# Altium footprint library MICRO-GRUPO_5-5A.pcbLib.PcbLib: 26 footprints (part 2 of 2)
Each footprint in its own frame and in the unit in brackets; x right, y up, seen from the top. Pads: shape width x height; smd on the part's side, far side on the other; paste and mask are expansions set on the pad; w line width, h text height; cw(c..) or ccw(c..) is an arc to the next point about the centre after c.
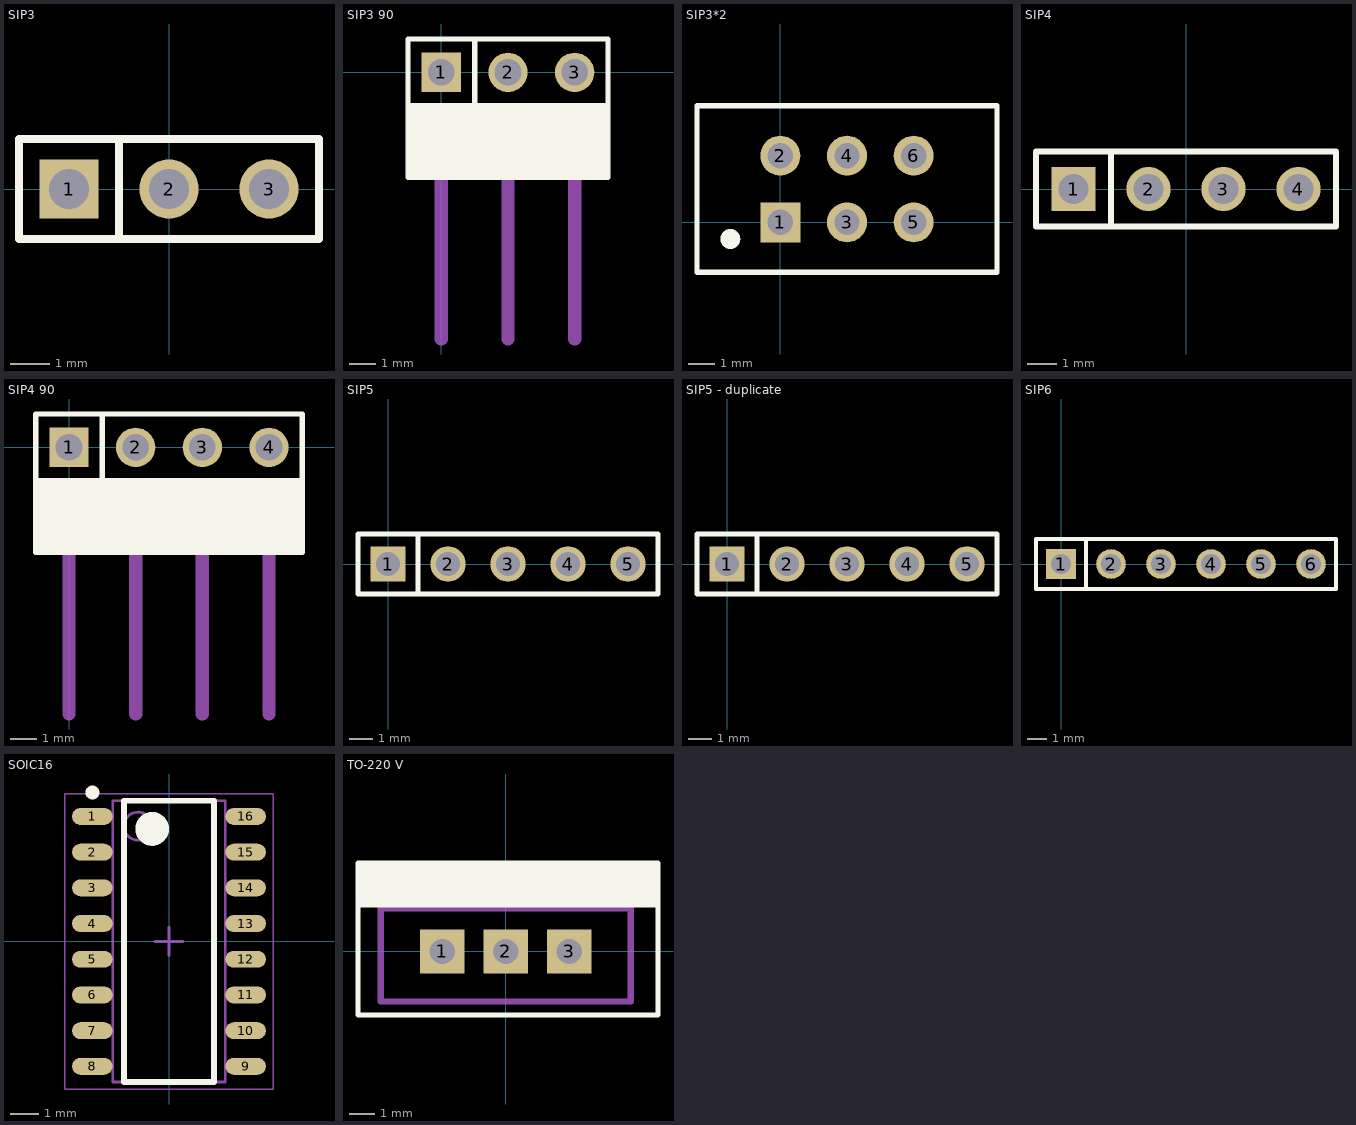
[diagram p1: the footprints below, top view; thin cyan lines are the x and y axes]

## SIP3 [mm]
pads (3):
  rect 1.5x1.5 hole 1.016: 1(-2.54,0)
  round 1.5 hole 1.016: 2(0,0) 3(2.54,0)
Top Overlay:
  lines w0.2: -1.27,-1.27 -1.27,1.27 ; -3.81,-1.27 3.81,-1.27 3.81,1.27 -3.81,1.27 -3.81,-1.27
3D body: height 8.38, standoff -2.54, extent -3.81,-1.295 3.81,1.245

## SIP3 90 [mm]
pads (3):
  rect 1.5x1.5 hole 1.016: 1(0,0)
  round 1.5 hole 1.016: 2(2.54,0) 3(5.08,0)
Top Overlay:
  rectangle: -1.27,-4 1.27,-1.27
  rectangle: 1.27,-4 3.81,-1.27
  rectangle: 3.81,-4 6.35,-1.27
  lines w0.2: 1.27,1.27 1.27,-1.27 ; -1.27,-1.27 6.35,-1.27 ; -1.27,-1.27 -1.27,1.27 6.35,1.27 6.35,-1.27 ; -1.27,-1.27 -1.27,-4 1.27,-4 ; 1.27,-4 1.27,-1.27 ; 1.27,-4 1.27,-1.27 ; 1.27,-4 3.81,-4 ; 3.81,-4 3.81,-1.27 3.81,-4 ; 3.81,-4 6.35,-4 6.35,-1.27
Mechanical 1:
  lines w0.508: 0,-10.16 0,-4.064 ; 2.54,-10.16 2.54,-4.064 ; 5.08,-10.16 5.08,-4.064
3D body: height 3.76, standoff -4.72, extent -1.27,-9.938 3.81,0.286
3D body: height 3.76, standoff -4.72, extent 1.27,-9.938 6.35,0.286

## SIP3*2 [mil]
pads (6):
  rect 60x60 hole 38: 1(0,0)
  round 60 hole 38: 2(0,100) 3(100,0) 4(100,100) 5(200,0) 6(200,100)
Top Overlay:
  circle w10: c-78.46,-25 r4.92
  circle w10: c-75,-25 r10
  lines w7.87: -125,-75 325,-75 325,175 -125,175 -125,-75
3D body: height 397.64, standoff -59.06, extent -49.69,-51 250.31,149

## SIP4 [mm]
pads (4):
  rect 1.5x1.5 hole 1.016: 1(-3.81,0)
  round 1.5 hole 1.016: 2(-1.27,0) 3(1.27,0) 4(3.81,0)
Top Overlay:
  lines w0.2: -2.54,-1.27 -2.54,1.27 ; -5.08,-1.27 5.08,-1.27 5.08,1.27 -5.08,1.27 -5.08,-1.27
3D body: height 8.38, standoff -2.54, extent -5.08,-1.27 5.08,1.27

## SIP4 90 [mm]
pads (4):
  rect 1.5x1.5 hole 1.016: 1(0,0)
  round 1.5 hole 1.016: 2(2.54,0) 3(5.08,0) 4(7.62,0)
Top Overlay:
  rectangle: 6.35,-4 8.89,-1.27
  rectangle: 3.81,-4 6.35,-1.27
  rectangle: 1.27,-4 3.81,-1.27
  rectangle: -1.27,-4 1.27,-1.27
  lines w0.2: 1.27,1.27 1.27,-1.27 ; -1.27,-1.27 -1.27,-4 1.27,-4 ; -1.27,-1.27 -1.27,1.27 8.89,1.27 8.89,-1.27 ; -1.27,-1.27 8.89,-1.27 ; 1.27,-4 3.81,-4 ; 1.27,-4 1.27,-1.27 ; 1.27,-4 1.27,-1.27 ; 3.81,-4 6.35,-4 ; 3.81,-4 3.81,-1.27 3.81,-4 ; 6.35,-4 8.89,-4 8.89,-1.27 ; 6.35,-4 6.35,-1.27 6.35,-4
Mechanical 1:
  lines w0.508: 0,-10.16 0,-4.064 ; 2.54,-10.16 2.54,-4.064 ; 5.08,-10.16 5.08,-4.064 ; 7.62,-10.16 7.62,-4.064
3D body: height 3.76, standoff -4.72, extent -1.27,-9.938 3.81,0.286
3D body: height 3.76, standoff -4.72, extent 3.81,-9.938 8.89,0.286

## SIP5 [mm]
pads (5):
  rect 1.5x1.5 hole 1.016: 1(0,0)
  round 1.5 hole 1.016: 2(2.54,0) 3(5.08,0) 4(7.62,0) 5(10.16,0)
Top Overlay:
  lines w0.2: 1.27,-1.27 1.27,1.27 ; -1.27,-1.27 11.43,-1.27 11.43,1.27 -1.27,1.27 -1.27,-1.27
3D body: height 8.38, standoff -2.54, extent 1.27,-1.27 11.43,1.27
3D body: height 8.38, standoff -2.54, extent -1.27,-1.27 8.89,1.27

## SIP5 - duplicate [mm]
pads (5):
  rect 1.5x1.5 hole 1.016: 1(0,0)
  round 1.5 hole 1.016: 2(2.54,0) 3(5.08,0) 4(7.62,0) 5(10.16,0)
Top Overlay:
  lines w0.2: 1.27,-1.27 1.27,1.27 ; -1.27,-1.27 11.43,-1.27 11.43,1.27 -1.27,1.27 -1.27,-1.27
3D body: height 8.38, standoff -2.54, extent 1.27,-1.27 11.43,1.27
3D body: height 8.38, standoff -2.54, extent -1.27,-1.27 8.89,1.27

## SIP6 [mm]
pads (6):
  rect 1.5x1.5 hole 1.016: 1(0,0)
  round 1.5 hole 1.016: 2(2.54,0) 3(5.08,0) 4(7.62,0) 5(10.16,0) 6(12.7,0)
Top Overlay:
  lines w0.2: 1.27,-1.27 1.27,1.27 ; -1.27,-1.27 -1.27,1.27 13.97,1.27 13.97,-1.27 -1.27,-1.27
3D body: height 8.38, standoff -2.54, extent -1.27,-1.295 6.35,1.245
3D body: height 8.38, standoff -2.54, extent 6.35,-1.295 13.97,1.245

## SOIC16 [mm] "controlador de corriente"
height 1.75
pads (16):
  oval 1.45x0.6 smd: 1(-2.725,4.445) 2(-2.725,3.175) 3(-2.725,1.905) 4(-2.725,0.635) 5(-2.725,-0.635) 6(-2.725,-1.905) 7(-2.725,-3.175) 8(-2.725,-4.445) 9(2.725,-4.445) 10(2.725,-3.175) 11(2.725,-1.905) 12(2.725,-0.635) 13(2.725,0.635) 14(2.725,1.905) 15(2.725,3.175) 16(2.725,4.445)
Top Overlay:
  circle w0.25: c-2.725,5.295 r0.125
  circle w0.6: c-0.6,4 r0.3
  lines w0.2: -1.6,-5 -1.6,5 1.6,5 1.6,-5 -1.6,-5
Mechanical 13:
  circle w0.1: c-1.1,4.1 r0.5
  lines w0.1: -2,-5 -2,5 2,5 2,-5 -2,-5
Mechanical 15:
  lines w0.05: -3.7,-5.25 -3.7,5.25 3.7,5.25 3.7,-5.25 -3.7,-5.25
  lines w0.1: -0.5,0 0.5,0 ; 0,-0.5 0,0.5
3D body: height 1.75, standoff 0.1, extent -2,-5 2,5

## TO-220 V [mil]
pads (3):
  rect 70x70 hole 40: 1(-100,0) 2(0,0) 3(100,0)
Top Overlay:
  region: -232.44,139.37 -232.44,70 240,70 240,139.37
  lines w7.87: -232.44,-100 240,-100 240,139.37 -232.44,139.37 -232.44,-100
Mechanical 1:
  lines w10: -196.85,68.11 196.85,68.11 ; -196.85,-78.74 196.85,-78.74 196.85,118.11 -196.85,118.11 -196.85,-78.74
3D body: height 118.11, standoff 0, extent -125,-15.75 -75,15.75
3D body: height 78.74, standoff -78.74, extent -115.75,-15.75 -84.25,15.75
3D body: height 118.11, standoff 0, extent -25,-15.75 25,15.75
3D body: height 78.74, standoff -78.74, extent -15.75,-15.75 15.75,15.75
3D body: height 118.11, standoff 0, extent 75,-15.75 125,15.75
3D body: height 78.74, standoff -78.74, extent 84.25,-15.75 115.75,15.75
3D body: height 433.07, standoff 118.11, extent -196.85,-78.74 196.85,118.11
3D body: height 708.66, standoff 433.07, extent -196.85,68.11 196.85,118.11